# Altium integrated library driver.IntLib: 16 symbols
Pins are listed as number, name and electrical type; pins without a type are passive.

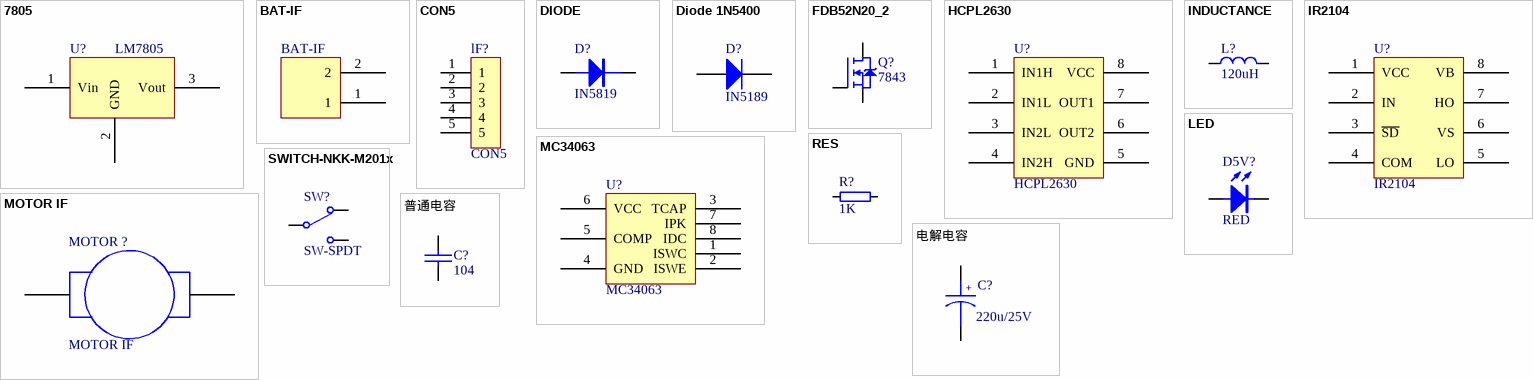
[diagram p0: symbols 7805 to 电解电容]

## 7805
designator U?, comment LM7805
footprint TO-252
pins: 1 Vin, 2 GND, 3 Vout

## BAT-IF
designator B?
footprint KF301-2P (可拼接端子/6A)
pins: 1, 2

## CON5
designator lF?
footprint 2.54排针1X5
pins: 1, 2, 3, 4, 5

## DIODE
designator D?, comment IN5819
footprint SOD-123 (2.7x1.6X1.1mm（长宽高，不包括引脚）)
pins: 1, 2

## Diode 1N5400
designator D?, comment IN5189
SS14; Published: 8-Jun-2000; LatestRevisionDate: 17-Jul-2002; LatestRevisionNote: Re-released for DXP Platform.; DatasheetVersion: 1998; PackageVersion: Aug-1999; PackageReference: DO-201AD; Publisher: Altium Limited; PackageDescription: Diode, Axial; Body 9.5 x 5.6 mm (LxDia. max), Lead Dia. 1.32 mm (max); ComponentLink1Description: Manufacturer Link; ComponentLink1URL: http://www.fairchildsemi.com/; ComponentLink2Description: Datasheet; ComponentLink2URL: http://www.fairchildsemi.com/ds/1N%2F1N5400.pdf
simulation model 1N5400 (DIODE)
signal-integrity model 1N5400
footprint SMA
pins: 1 A, 2 K

## FDB52N20_2
designator Q?, comment 7843
N-Channel MOSFET
footprint TO-252 (TO-252, DPAK)
pins: 1 G, 3 S, 4 D

## HCPL2630
designator U?
footprint DIP-8 (DIP; 8 Leads; Row Spacing 7.62 mm; Pitch 2.54 mm)
pins: 1 IN1H, 2 IN1L, 3 IN2L, 4 IN2H, 5 GND, 6 OUT2, 7 OUT1, 8 VCC

## INDUCTANCE
designator L?, comment 120uH
Inductance
footprint L1210
pins: 1, 2

## IR2104
designator U?
footprint SO8_M (SOIC, 8-Leads, Body 4.9x3.9mm, Pitch 1.27mm, IPC Low Density)
pins: 1 VCC, 2 IN, 3 ~{SD}, 4 COM, 5 LO, 6 VS, 7 HO, 8 VB

## LED
designator D5V?, comment RED
LED
footprint LED-0603 (LED, SMD, 0603)
pins: 1 A, 2 C

## MC34063
designator U?
footprint SO-8 (SOIC, 8PIN)
pins: 1 ISWC, 2 ISWE, 3 TCAP, 4 GND, 5 COMP, 6 VCC, 7 IPK, 8 IDC

## MOTOR IF
designator MOTOR ?
footprint KF301-2P (可拼接端子/6A)
pins: 1, 2

## RES
designator R?, comment 1K
footprint 0603 (Chip Inductor, Body 0.6x0.3mm, IPC High Density)
pins: 1, 2

## SWITCH-NKK-M201x
designator SW?, comment SW-SPDT
Switch
footprint SW3-H2X3_8.6X4.5_L (领祥电子[立式2mm])
pins: 1, 2, 3

## 普通电容
designator C?, comment 104
Capacitor
footprint 0603 (Chip Inductor, Body 0.6x0.3mm, IPC High Density)
pins: 1, 2

## 电解电容
designator C?, comment 220u/25V
Capacitor
footprint CAP 2.5*6.3*7 - BK (脚距2.5mm直径6.3mm高度7mm)
pins: 1, 2
text: +